# EAGLE library part USB_FEMALE_2X (library 1_domaci)
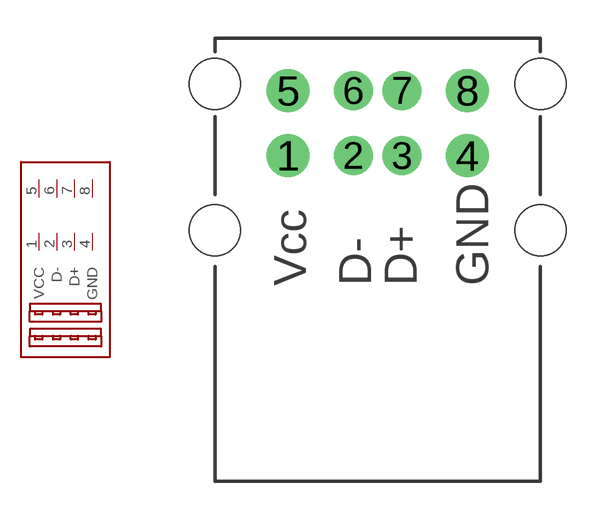
[diagram p0: symbol with the pads of USB_FEMALE_2X; footprint USB_FEMALE_2X]

Designator prefix -

## USB_FEMALE_2X  [USB_FEMALE_2X]
1  VCC  pwr
2  D-
3  D+
4  GND  pwr
5  VCC2  pwr
6  D-2
7  D+2
8  GND2  pwr

## Footprint USB_FEMALE_2X (pad centres in mm)
drill 0.9 pad 1.676: 1 -3.493,3.81; 4 3.493,3.81; 5 -3.493,6.35; 8 3.493,6.35
drill 0.9 pad 1.524: 2 -0.953,3.81; 3 0.953,3.81; 6 -0.953,6.35; 7 0.953,6.35
hole 2 at -6.35,6.604
hole 2 at -6.35,0.889
hole 2 at 6.35,0.889
hole 2 at 6.35,6.604